# EAGLE library part TIL311 (library FHD-RETRO)
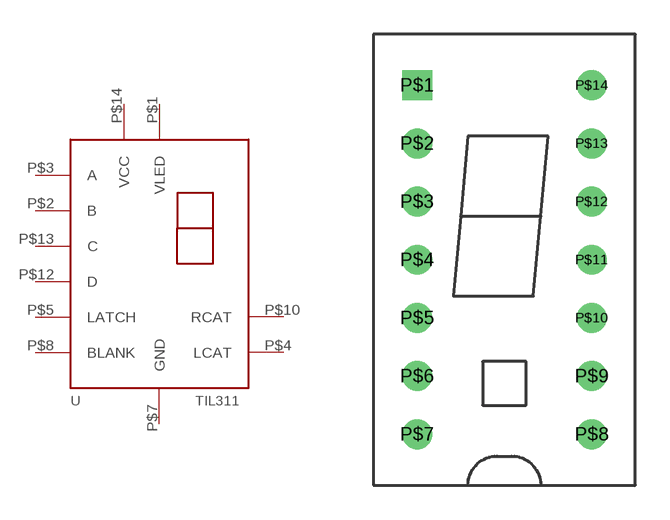
[diagram p7: symbol with the pads of TIL311; footprint TIL311]

Designator prefix -

## TIL311  [TIL311]
P$1  VLED
P$2  B
P$3  A
P$4  LCAT
P$5  LATCH
P$7  GND
P$8  BLANK
P$10  RCAT
P$12  D
P$13  C
P$14  VCC

## Footprint TIL311 (pad centres in mm)
drill 0.8 square: P$1 -3.81,7.62
drill 0.8: P$2 -3.81,5.08; P$3 -3.81,2.54; P$4 -3.81,0; P$5 -3.81,-2.54; P$6 -3.81,-5.08; P$7 -3.81,-7.62; P$8 3.81,-7.62; P$9 3.81,-5.08; P$10 3.81,-2.54; P$11 3.81,0; P$12 3.81,2.54; P$13 3.81,5.08; P$14 3.81,7.62